# Altium footprint library Vishay Draloric Footprints.PcbLib: 285 footprints (part 18 of 18)
Each footprint in its own frame and in the unit in brackets; x right, y up, seen from the top. Pads: shape width x height; smd on the part's side, far side on the other; paste and mask are expansions set on the pad; w line width, h text height; cw(c..) or ccw(c..) is an arc to the next point about the centre after c.
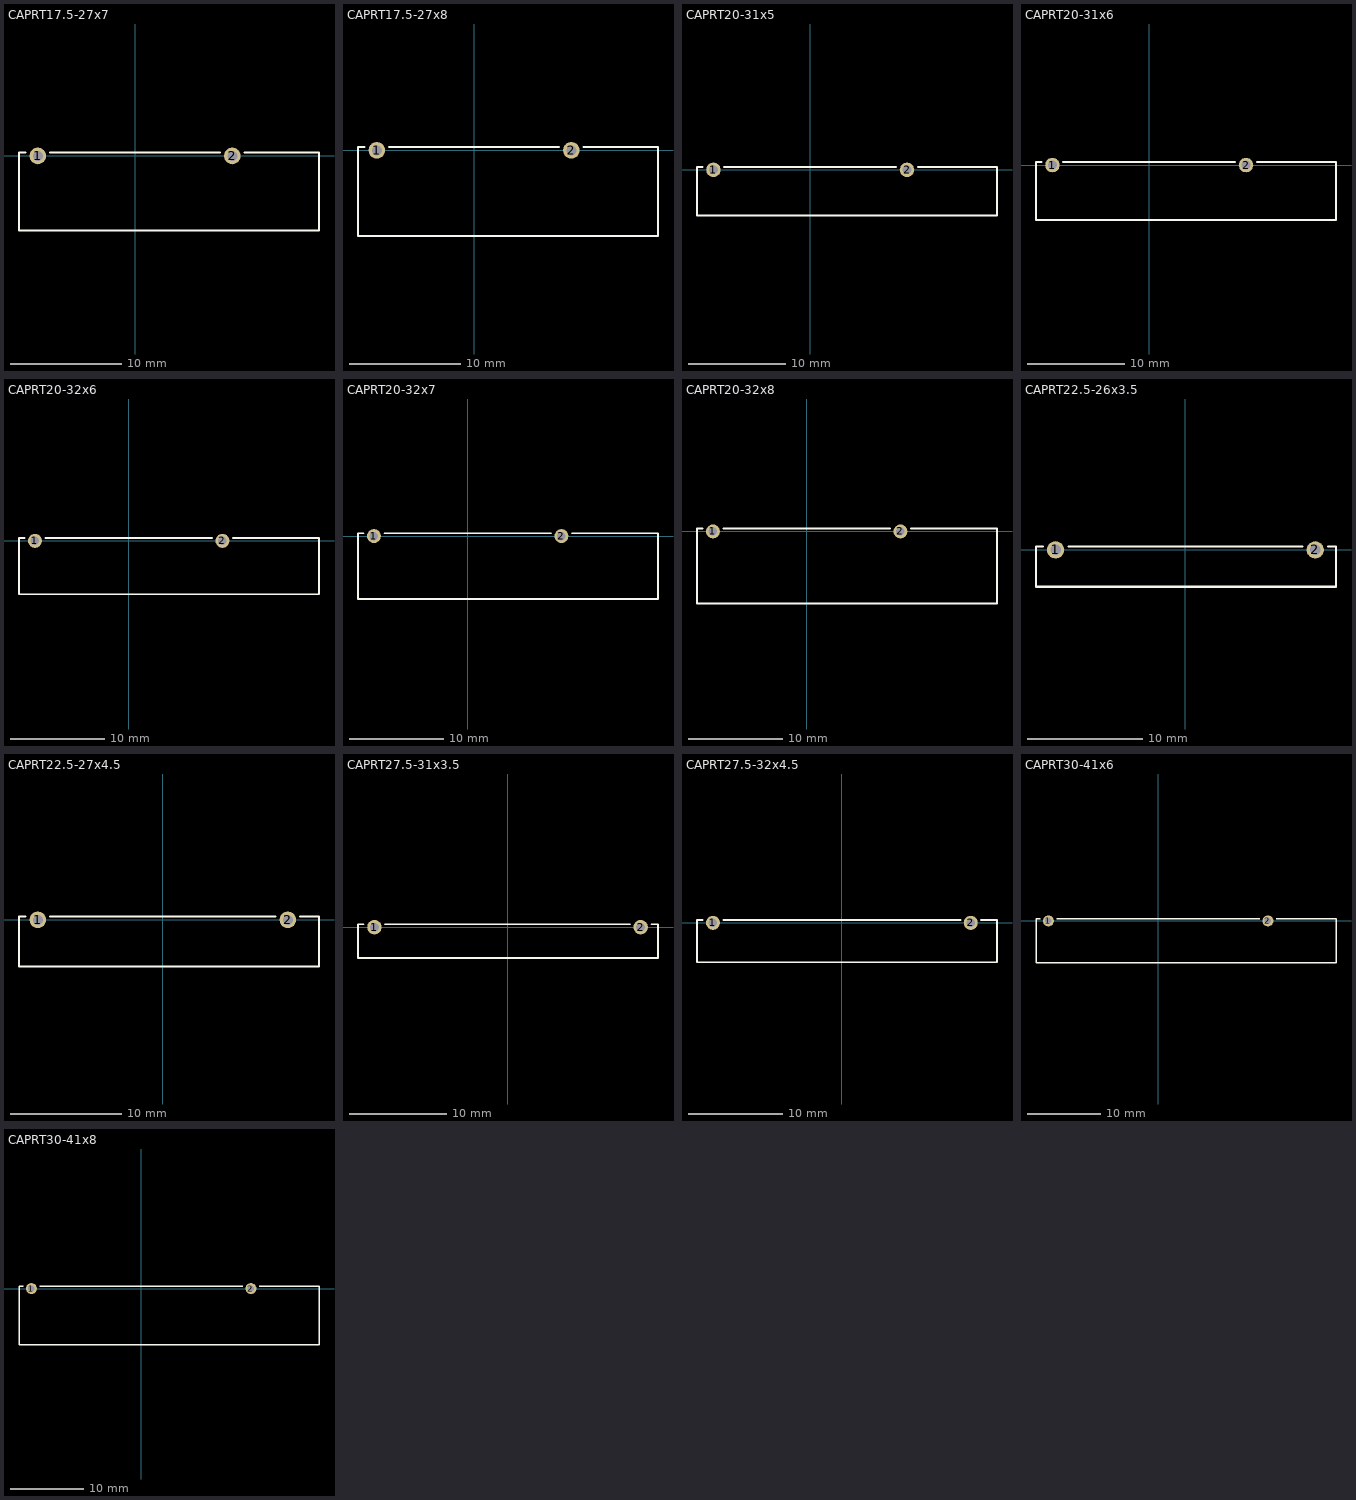
[diagram p17: the footprints below, top view; thin cyan lines are the x and y axes]

## CAPRT17.5-27x7 [mm] "Capacitor, Ceramic, Thu-Hole, Tubular; Body 27 x 7 mm (LxDia. max) Pin Spacing 17.5 mm (typ)"
height 10
pads (2):
  round 1.5 hole 0.9: 1(-8.75,0) 2(8.75,0)
Top Overlay:
  lines w0.2: -9.86,0.3 -10.45,0.3 -10.45,-6.7 16.55,-6.7 16.55,0.3 9.86,0.3 ; -7.64,0.3 7.64,0.3

## CAPRT17.5-27x8 [mm] "Capacitor, Ceramic, Thu-Hole, Tubular; Body 27 x 8 mm (LxDia. max) Pin Spacing 17.5 mm (typ)"
height 11
pads (2):
  round 1.5 hole 0.9: 1(-8.75,0) 2(8.75,0)
Top Overlay:
  lines w0.2: -9.86,0.3 -10.45,0.3 -10.45,-7.7 16.55,-7.7 16.55,0.3 9.86,0.3 ; -7.64,0.3 7.64,0.3

## CAPRT20-31x5 [mm] "Capacitor, Ceramic, Thu-Hole, Tubular; Body 31 x 5 mm (LxDia. max) Pin Spacing 20 mm (typ)"
height 7
pads (2):
  round 1.5 hole 0.9: 1(-10,0) 2(10,0)
Top Overlay:
  lines w0.2: -11.11,0.3 -11.7,0.3 -11.7,-4.7 19.3,-4.7 19.3,0.3 11.11,0.3 ; -8.89,0.3 8.89,0.3

## CAPRT20-31x6 [mm] "Capacitor, Ceramic, Thu-Hole, Tubular; Body 31 x 6 mm (LxDia. max) Pin Spacing 20 mm (typ)"
height 8
pads (2):
  round 1.5 hole 0.9: 1(-10,0) 2(10,0)
Top Overlay:
  lines w0.2: -11.11,0.3 -11.7,0.3 -11.7,-5.7 19.3,-5.7 19.3,0.3 11.11,0.3 ; -8.89,0.3 8.89,0.3

## CAPRT20-32x6 [mm] "Capacitor, Ceramic, Thu-Hole, Tubular; Body 32 x 6 mm (LxDia. max) Pin Spacing 20 mm (typ)"
height 9
pads (2):
  round 1.5 hole 0.9: 1(-10,0) 2(10,0)
Top Overlay:
  lines w0.2: -11.11,0.3 -11.7,0.3 -11.7,-5.7 20.3,-5.7 20.3,0.3 11.11,0.3 ; -8.89,0.3 8.89,0.3

## CAPRT20-32x7 [mm] "Capacitor, Ceramic, Thu-Hole, Tubular; Body 32 x 7 mm (LxDia. max) Pin Spacing 20 mm (typ)"
height 10
pads (2):
  round 1.5 hole 0.9: 1(-10,0) 2(10,0)
Top Overlay:
  lines w0.2: -11.11,0.3 -11.7,0.3 -11.7,-6.7 20.3,-6.7 20.3,0.3 11.11,0.3 ; -8.89,0.3 8.89,0.3

## CAPRT20-32x8 [mm] "Capacitor, Ceramic, Thu-Hole, Tubular; Body 32 x 8 mm (LxDia. max) Pin Spacing 20 mm (typ)"
height 11
pads (2):
  round 1.5 hole 0.9: 1(-10,0) 2(10,0)
Top Overlay:
  lines w0.2: -11.11,0.3 -11.7,0.3 -11.7,-7.7 20.3,-7.7 20.3,0.3 11.11,0.3 ; -8.89,0.3 8.89,0.3

## CAPRT22.5-26x3.5 [mm] "Capacitor, Ceramic, Thu-Hole, Tubular; Body 26 x 3.5 mm (LxDia. max) Pin Spacing 22.5 mm (typ)"
height 5.5
pads (2):
  round 1.5 hole 0.9: 1(-11.25,0) 2(11.25,0)
Top Overlay:
  lines w0.2: -12.36,0.3 -12.95,0.3 -12.95,-3.2 13.05,-3.2 13.05,0.3 12.36,0.3 ; -10.14,0.3 10.14,0.3

## CAPRT22.5-27x4.5 [mm] "Capacitor, Ceramic, Thu-Hole, Tubular; Body 27 x 4.5 mm (LxDia. max) Pin Spacing 22.5 mm (typ)"
height 7.5
pads (2):
  round 1.5 hole 0.9: 1(-11.25,0) 2(11.25,0)
Top Overlay:
  lines w0.2: -12.36,0.3 -12.95,0.3 -12.95,-4.2 14.05,-4.2 14.05,0.3 12.36,0.3 ; -10.14,0.3 10.14,0.3

## CAPRT27.5-31x3.5 [mm] "Capacitor, Ceramic, Thu-Hole, Tubular; Body 31 x 3.5 mm (LxDia. max) Pin Spacing 27.5 mm (typ)"
height 5.5
pads (2):
  round 1.5 hole 0.9: 1(-13.75,0) 2(13.75,0)
Top Overlay:
  lines w0.2: -14.86,0.3 -15.45,0.3 -15.45,-3.2 15.55,-3.2 15.55,0.3 14.86,0.3 ; -12.64,0.3 12.64,0.3

## CAPRT27.5-32x4.5 [mm] "Capacitor, Ceramic, Thu-Hole, Tubular; Body 32 x 4.5 mm (LxDia. max) Pin Spacing 27.5 mm (typ)"
height 7.5
pads (2):
  round 1.5 hole 0.9: 1(-13.75,0) 2(13.75,0)
Top Overlay:
  lines w0.2: -14.86,0.3 -15.45,0.3 -15.45,-4.2 16.55,-4.2 16.55,0.3 14.86,0.3 ; -12.64,0.3 12.64,0.3

## CAPRT30-41x6 [mm] "Capacitor, Ceramic, Thu-Hole, Tubular; Body 41 x 6 mm (LxDia. max) Pin Spacing 30 mm (typ)"
height 8
pads (2):
  round 1.5 hole 0.9: 1(-15,0) 2(15,0)
Top Overlay:
  lines w0.2: -16.11,0.3 -16.7,0.3 -16.7,-5.7 24.3,-5.7 24.3,0.3 16.11,0.3 ; -13.89,0.3 13.89,0.3

## CAPRT30-41x8 [mm] "Capacitor, Ceramic, Thu-Hole, Tubular; Body 41 x 8 mm (LxDia. max) Pin Spacing 30 mm (typ)"
height 11
pads (2):
  round 1.5 hole 0.9: 1(-15,0) 2(15,0)
Top Overlay:
  lines w0.2: -16.11,0.3 -16.7,0.3 -16.7,-7.7 24.3,-7.7 24.3,0.3 16.11,0.3 ; -13.89,0.3 13.89,0.3